# Altium schematic symbol library DMP3098LSD-13.SchLib: 1 symbol
Pins are listed as number, name and electrical type; pins without a type are passive.

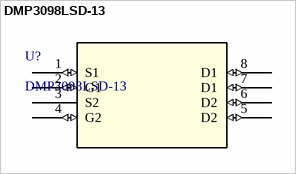
[diagram p0: symbol DMP3098LSD-13]

## DMP3098LSD-13
designator U?
Description; Manufacturer_Name: Diodes Inc; Copyright: Copyright (C) 2025 Ultra Librarian. All rights reserved.; Manufacturer_Part_Number: DMP3098LSD-13; RefDes: RefDes; Type: Type
footprint SOP_DMP3098LSD-13_DIO
pins: 1 S1 (io), 2 G1 (io), 3 S2, 4 G2 (io), 5 D2 (io), 6 D2 (io), 7 D1 (io), 8 D1 (io)